# Altium integrated library Analog Devices Data Converters Analog-to-Digital Converters.IntLib: 2404 symbols (part 2 of 346)
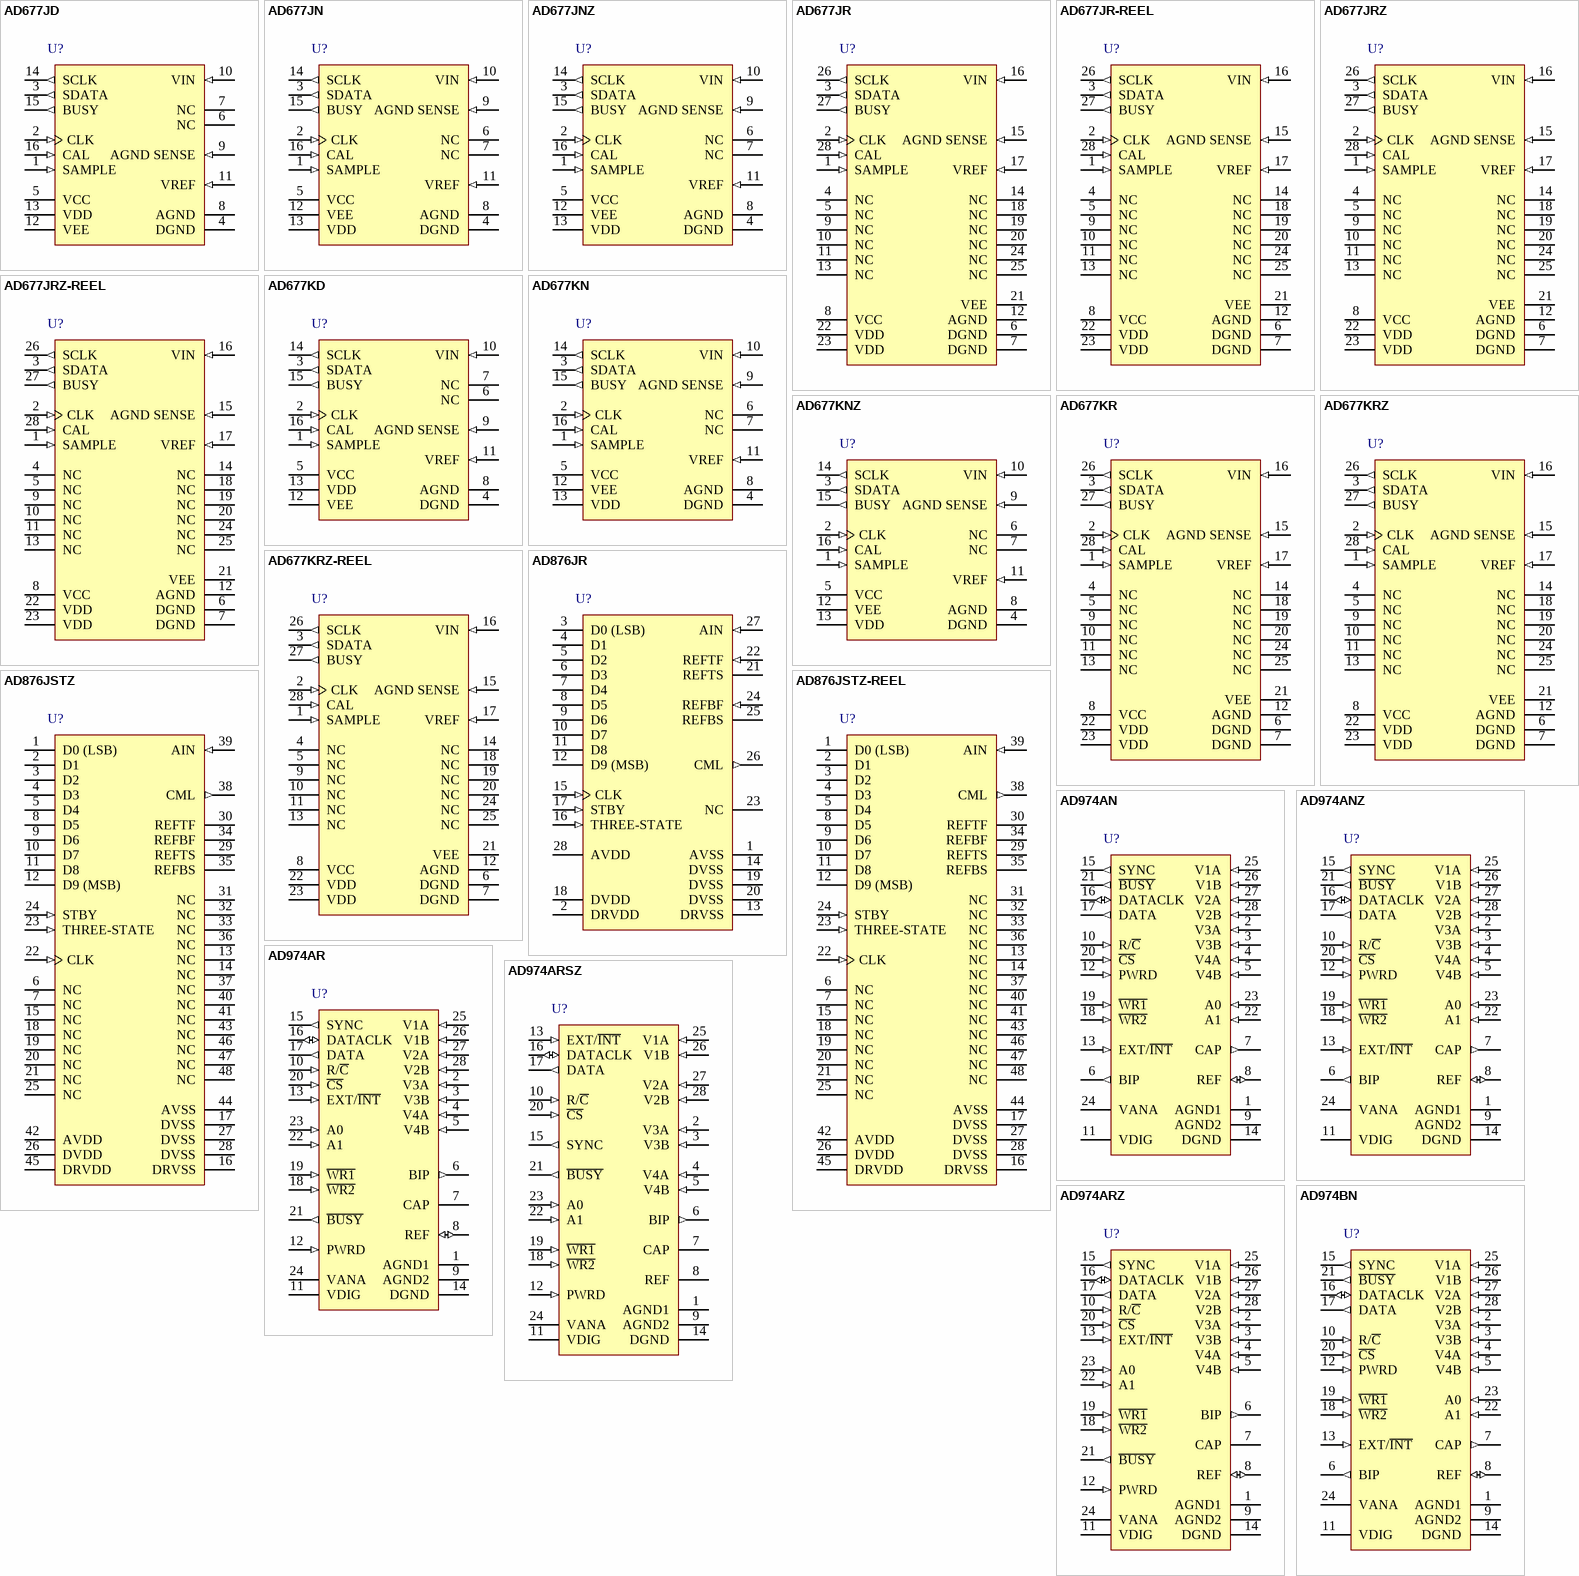
[diagram p101: symbols AD677JD to AD974BN]

## AD677JN
designator U?
Single 16-Bit Sampling Analog-to-Digital Converter with Serial Interface, 100KSPS, 0 to +70 degC, N-16, Tube; Generic Part Number: AD677; Manufacturer: Analog Devices; PartNumber: AD677JN; Resolution (Bits): 16; Channels: 1; Throughput Rate (SPS): 100K; Interface: Ser; DatasheetVersion: Rev.A; PackageVersion: 070706-A; PackageReference: N-16; PackageDescription: 16-Lead Plastic Dual In-Line Package [PDIP] Narrow Body; Supplier 1: Digi-Key; Supplier Part Number 1: AD677JN-ND; Supplier 2: Mouser; Supplier Part Number 2: 584-AD677JN; RoHS: N; Packing: Tube; Mounting Technology: Through-hole; Code_JEDEC: MS-001; ComponentLink1Description: Manufacturer URL; ComponentLink1URL: http://www.analog.com/en/index.html; ComponentLink2Description: Datasheet; ComponentLink2URL: http://www.analog.com/static/imported-files/data_sheets/AD677.pdf; ComponentLink3Description: Package Specification; ComponentLink3URL: http://www.analog.com/static/imported-files/packages/44768431550332N_16.pdf; ComponentLink4Description: Product URL; ComponentLink4URL: http://www.analog.com/en/analog-to-digital-converters/ad-converters/ad677/products/product.html
footprint N-16 (DIP, 16-Leads, Row Spacing 7.62mm, Pitch 2.54mm, Body 20.1x6.6mm)
pins: 1 SAMPLE (in) "VIN  Acquisition Control Pin. Active HIGH. During conversion, SAMPLE controls the suite of the internal sample-hold amplifier and the falling edge initiates conversion. During calibration, SAMPLE should be held LOW. If HIGH (See Datasheet)", 2 CLK (in) "Master Clock Input. The AD677 requires 17 clock pulses to execute a conversion. CLK is also used to derive SCLK.", 3 SDATA (out) "Serial Output Data Controlled by SCLK.", 4 DGND (power) "Digital Ground.", 5 VCC (power) "+12 V Analog Supply Voltage.", 6 NC "No Connection. No connections should be made to these pins.", 7 NC "No Connection. No connections should be made to these pins.", 8 AGND (power) "Analog Ground.", 9 AGND SENSE (in) "Analog Ground Sense.", 10 VIN (in) "Analog Input Voltage.", 11 VREF (in) "External Voltage Reference Input.", 12 VEE (power) "-12 V Analog Supply Voltage.", 13 VDD (power) "+5 V Logic Supply Voltage.", 14 SCLK (out) "Clock Output for Data Read, derived from CLK.", 15 BUSY (out) "Status Line for Converter. Active HIGH, indicating a conversion or calibration in progress.", 16 CAL (in) "Calibration Control Pin."

## AD677JNZ
designator U?
Single 16-Bit Sampling Analog-to-Digital Converter with Serial Interface, 100KSPS, 0 to +70 degC, N-16, Pb-Free, Tube; Generic Part Number: AD677; Manufacturer: Analog Devices; PartNumber: AD677JNZ; Resolution (Bits): 16; Channels: 1; Throughput Rate (SPS): 100K; Interface: Ser; DatasheetVersion: Rev.A; PackageVersion: 070706-A; PackageReference: N-16; PackageDescription: 16-Lead Plastic Dual In-Line Package [PDIP] Narrow Body; Supplier 1: Digi-Key; Supplier Part Number 1: AD677JNZ-ND; Supplier 2: Farnell; Supplier Part Number 2: 1438348; Supplier 3: Newark; Supplier Part Number 3: 59K4509; Supplier 4: Mouser; Supplier Part Number 4: 584-AD677JNZ; RoHS: Y; Packing: Tube; Mounting Technology: Through-hole; Code_JEDEC: MS-001; ComponentLink1Description: Manufacturer URL; ComponentLink1URL: http://www.analog.com/en/index.html; ComponentLink2Description: Datasheet; ComponentLink2URL: http://www.analog.com/static/imported-files/data_sheets/AD677.pdf; ComponentLink3Description: Package Specification; ComponentLink3URL: http://www.analog.com/static/imported-files/packages/44768431550332N_16.pdf; ComponentLink4Description: Product URL; ComponentLink4URL: http://www.analog.com/en/analog-to-digital-converters/ad-converters/ad677/products/product.html
footprint N-16 (DIP, 16-Leads, Row Spacing 7.62mm, Pitch 2.54mm, Body 20.1x6.6mm)
pins: 1 SAMPLE (in) "VIN  Acquisition Control Pin. Active HIGH. During conversion, SAMPLE controls the suite of the internal sample-hold amplifier and the falling edge initiates conversion. During calibration, SAMPLE should be held LOW. If HIGH (See Datasheet)", 2 CLK (in) "Master Clock Input. The AD677 requires 17 clock pulses to execute a conversion. CLK is also used to derive SCLK.", 3 SDATA (out) "Serial Output Data Controlled by SCLK.", 4 DGND (power) "Digital Ground.", 5 VCC (power) "+12 V Analog Supply Voltage.", 6 NC "No Connection. No connections should be made to these pins.", 7 NC "No Connection. No connections should be made to these pins.", 8 AGND (power) "Analog Ground.", 9 AGND SENSE (in) "Analog Ground Sense.", 10 VIN (in) "Analog Input Voltage.", 11 VREF (in) "External Voltage Reference Input.", 12 VEE (power) "-12 V Analog Supply Voltage.", 13 VDD (power) "+5 V Logic Supply Voltage.", 14 SCLK (out) "Clock Output for Data Read, derived from CLK.", 15 BUSY (out) "Status Line for Converter. Active HIGH, indicating a conversion or calibration in progress.", 16 CAL (in) "Calibration Control Pin."

## AD677JR
designator U?
Single 16-Bit Sampling Analog-to-Digital Converter with Serial Interface, 100KSPS, 0 to +70 degC, RW-28, Tube; Generic Part Number: AD677; Manufacturer: Analog Devices; PartNumber: AD677JR; Resolution (Bits): 16; Channels: 1; Throughput Rate (SPS): 100K; Interface: Ser; DatasheetVersion: Rev.A; PackageVersion: 060706-A; PackageReference: RW-28; PackageDescription: 28-Lead Standard Small Outline Package [SOIC_W]; Supplier 1: Digi-Key; Supplier Part Number 1: AD677JR-ND; Supplier 2: Mouser; Supplier Part Number 2: 584-AD677JR; RoHS: N; Packing: Tube; Mounting Technology: Surface Mount; Code_JEDEC: MS-013-AE; ComponentLink1Description: Manufacturer URL; ComponentLink1URL: http://www.analog.com/en/index.html; ComponentLink2Description: Datasheet; ComponentLink2URL: http://www.analog.com/static/imported-files/data_sheets/AD677.pdf; ComponentLink3Description: Package Specification; ComponentLink3URL: http://www.analog.com/static/imported-files/packages/35833120341221RW_28.pdf; ComponentLink4Description: Product URL; ComponentLink4URL: http://www.analog.com/en/analog-to-digital-converters/ad-converters/ad677/products/product.html
footprint RW-28_N (SOIC, 28-Leads, Body 17.9x7.5mm, Pitch 1.27mm, IPC Medium Density)
footprint RW-28_L (SOIC, 28-Leads, Body 17.9x7.5mm, Pitch 1.27mm, IPC High Density)
footprint RW-28_M (SOIC, 28-Leads, Body 17.9x7.5mm, Pitch 1.27mm, IPC Low Density)
pins: 1 SAMPLE (in) "VIN Acquisition Control Pin. Active HIGH. During conversion, SAMPLEcontrols the suite of the internal sample-hold amplifier and the falling edgeinitiates conversion. During calibration, SAMPLE should be held LOW. IfHIGH (See Datasheet)", 2 CLK (in) "Master Clock Input. The AD677 requires 17 clock pulses to execute a conversion. CLK is also used to derive SCLK.", 3 SDATA (out) "Serial Output Data Controlled by SCLK.", 4 NC "No Connection. No connections should be made to these pins.", 5 NC "No Connection. No connections should be made to these pins.", 6 DGND (power) "Digital Ground.", 7 DGND (power) "Digital Ground.", 8 VCC (power) "+12 V Analog Supply Voltage.", 9 NC "No Connection. No connections should be made to these pins.", 10 NC "No Connection. No connections should be made to these pins.", 11 NC "No Connection. No connections should be made to these pins.", 12 AGND (power) "Analog Ground.", 13 NC "No Connection. No connections should be made to these pins.", 14 NC "No Connection. No connections should be made to these pins.", 15 AGND SENSE (in) "Analog Ground Sense.", 16 VIN (in) "Analog Input Voltage", 17 VREF (in) "External Voltage Reference Input.", 18 NC "No Connection. No connections should be made to these pins.", 19 NC "No Connection. No connections should be made to these pins.", 20 NC "No Connection. No connections should be made to these pins.", 21 VEE (power) "-12 V Analog Supply Voltage.", 22 VDD (power) "+5 V Logic Supply Voltage.", 23 VDD (power) "+5 V Logic Supply Voltage.", 24 NC "No Connection. No connections should be made to these pins.", 25 NC "No Connection. No connections should be made to these pins.", 26 SCLK (out) "Clock Output for Data Read, derived from CLK.", 27 BUSY (out) "Status Line for Converter. Active HIGH, indicating a conversion or calibration in progress.", 28 CAL (in) "Calibration Control Pin."

## AD677JR-REEL
designator U?
Single 16-Bit Sampling Analog-to-Digital Converter with Serial Interface, 100KSPS, 0 to +70 degC, RW-28, Reel; Generic Part Number: AD677; Manufacturer: Analog Devices; PartNumber: AD677JR-REEL; Resolution (Bits): 16; Channels: 1; Throughput Rate (SPS): 100K; Interface: Ser; DatasheetVersion: Rev.A; PackageVersion: 060706-A; PackageReference: RW-28; PackageDescription: 28-Lead Standard Small Outline Package [SOIC_W]; Supplier 1: Digi-Key; Supplier Part Number 1: AD677JR-REEL-ND; Supplier 2: Mouser; Supplier Part Number 2: 584-AD677JR-R; RoHS: N; Packing: Reel; Mounting Technology: Surface Mount; Code_JEDEC: MS-013-AE; ComponentLink1Description: Manufacturer URL; ComponentLink1URL: http://www.analog.com/en/index.html; ComponentLink2Description: Datasheet; ComponentLink2URL: http://www.analog.com/static/imported-files/data_sheets/AD677.pdf; ComponentLink3Description: Package Specification; ComponentLink3URL: http://www.analog.com/static/imported-files/packages/35833120341221RW_28.pdf; ComponentLink4Description: Product URL; ComponentLink4URL: http://www.analog.com/en/analog-to-digital-converters/ad-converters/ad677/products/product.html
footprint RW-28_N (SOIC, 28-Leads, Body 17.9x7.5mm, Pitch 1.27mm, IPC Medium Density)
footprint RW-28_L (SOIC, 28-Leads, Body 17.9x7.5mm, Pitch 1.27mm, IPC High Density)
footprint RW-28_M (SOIC, 28-Leads, Body 17.9x7.5mm, Pitch 1.27mm, IPC Low Density)
pins: 1 SAMPLE (in) "VIN Acquisition Control Pin. Active HIGH. During conversion, SAMPLEcontrols the suite of the internal sample-hold amplifier and the falling edgeinitiates conversion. During calibration, SAMPLE should be held LOW. IfHIGH (See Datasheet)", 2 CLK (in) "Master Clock Input. The AD677 requires 17 clock pulses to execute a conversion. CLK is also used to derive SCLK.", 3 SDATA (out) "Serial Output Data Controlled by SCLK.", 4 NC "No Connection. No connections should be made to these pins.", 5 NC "No Connection. No connections should be made to these pins.", 6 DGND (power) "Digital Ground.", 7 DGND (power) "Digital Ground.", 8 VCC (power) "+12 V Analog Supply Voltage.", 9 NC "No Connection. No connections should be made to these pins.", 10 NC "No Connection. No connections should be made to these pins.", 11 NC "No Connection. No connections should be made to these pins.", 12 AGND (power) "Analog Ground.", 13 NC "No Connection. No connections should be made to these pins.", 14 NC "No Connection. No connections should be made to these pins.", 15 AGND SENSE (in) "Analog Ground Sense.", 16 VIN (in) "Analog Input Voltage", 17 VREF (in) "External Voltage Reference Input.", 18 NC "No Connection. No connections should be made to these pins.", 19 NC "No Connection. No connections should be made to these pins.", 20 NC "No Connection. No connections should be made to these pins.", 21 VEE (power) "-12 V Analog Supply Voltage.", 22 VDD (power) "+5 V Logic Supply Voltage.", 23 VDD (power) "+5 V Logic Supply Voltage.", 24 NC "No Connection. No connections should be made to these pins.", 25 NC "No Connection. No connections should be made to these pins.", 26 SCLK (out) "Clock Output for Data Read, derived from CLK.", 27 BUSY (out) "Status Line for Converter. Active HIGH, indicating a conversion or calibration in progress.", 28 CAL (in) "Calibration Control Pin."

## AD677JRZ
designator U?
Single 16-Bit Sampling Analog-to-Digital Converter with Serial Interface, 100KSPS, 0 to +70 degC, RW-28, Pb-Free, Tube; Generic Part Number: AD677; Manufacturer: Analog Devices; PartNumber: AD677JRZ; Resolution (Bits): 16; Channels: 1; Throughput Rate (SPS): 100K; Interface: Ser; DatasheetVersion: Rev.A; PackageVersion: 060706-A; PackageReference: RW-28; PackageDescription: 28-Lead Standard Small Outline Package [SOIC_W]; Supplier 1: Digi-Key; Supplier Part Number 1: AD677JRZ-ND; Supplier 2: Newark; Supplier Part Number 2: 59K4510; Supplier 3: Mouser; Supplier Part Number 3: 584-AD677JRZ; RoHS: Y; Packing: Tube; Mounting Technology: Surface Mount; Code_JEDEC: MS-013-AE; ComponentLink1Description: Manufacturer URL; ComponentLink1URL: http://www.analog.com/en/index.html; ComponentLink2Description: Datasheet; ComponentLink2URL: http://www.analog.com/static/imported-files/data_sheets/AD677.pdf; ComponentLink3Description: Package Specification; ComponentLink3URL: http://www.analog.com/static/imported-files/packages/35833120341221RW_28.pdf; ComponentLink4Description: Product URL; ComponentLink4URL: http://www.analog.com/en/analog-to-digital-converters/ad-converters/ad677/products/product.html
footprint RW-28_N (SOIC, 28-Leads, Body 17.9x7.5mm, Pitch 1.27mm, IPC Medium Density)
footprint RW-28_L (SOIC, 28-Leads, Body 17.9x7.5mm, Pitch 1.27mm, IPC High Density)
footprint RW-28_M (SOIC, 28-Leads, Body 17.9x7.5mm, Pitch 1.27mm, IPC Low Density)
pins: 1 SAMPLE (in) "VIN Acquisition Control Pin. Active HIGH. During conversion, SAMPLEcontrols the suite of the internal sample-hold amplifier and the falling edgeinitiates conversion. During calibration, SAMPLE should be held LOW. IfHIGH (See Datasheet)", 2 CLK (in) "Master Clock Input. The AD677 requires 17 clock pulses to execute a conversion. CLK is also used to derive SCLK.", 3 SDATA (out) "Serial Output Data Controlled by SCLK.", 4 NC "No Connection. No connections should be made to these pins.", 5 NC "No Connection. No connections should be made to these pins.", 6 DGND (power) "Digital Ground.", 7 DGND (power) "Digital Ground.", 8 VCC (power) "+12 V Analog Supply Voltage.", 9 NC "No Connection. No connections should be made to these pins.", 10 NC "No Connection. No connections should be made to these pins.", 11 NC "No Connection. No connections should be made to these pins.", 12 AGND (power) "Analog Ground.", 13 NC "No Connection. No connections should be made to these pins.", 14 NC "No Connection. No connections should be made to these pins.", 15 AGND SENSE (in) "Analog Ground Sense.", 16 VIN (in) "Analog Input Voltage", 17 VREF (in) "External Voltage Reference Input.", 18 NC "No Connection. No connections should be made to these pins.", 19 NC "No Connection. No connections should be made to these pins.", 20 NC "No Connection. No connections should be made to these pins.", 21 VEE (power) "-12 V Analog Supply Voltage.", 22 VDD (power) "+5 V Logic Supply Voltage.", 23 VDD (power) "+5 V Logic Supply Voltage.", 24 NC "No Connection. No connections should be made to these pins.", 25 NC "No Connection. No connections should be made to these pins.", 26 SCLK (out) "Clock Output for Data Read, derived from CLK.", 27 BUSY (out) "Status Line for Converter. Active HIGH, indicating a conversion or calibration in progress.", 28 CAL (in) "Calibration Control Pin."